# EAGLE library part MKL05ZXXVLF4 (library lib_stankus)
Freescale MKL05ZXXVLF4
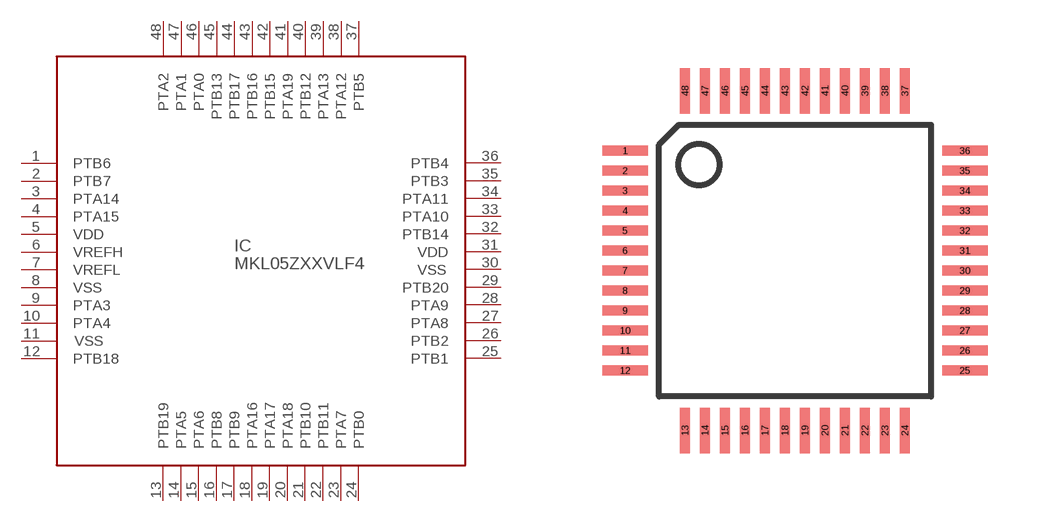
[diagram p115: symbol with the pads of QFP48_7_05; footprint QFP48_7_05]

Designator prefix IC

## MKL05ZXXVLF4-QFP48  [QFP48_7_05]
1  PTB6  pas
2  PTB7  pas
3  PTA14  pas
4  PTA15  pas
5  VDD  pas
6  VREFH  pas
7  VREFL  pas
8  VSS  pas
9  PTA3  pas
10  PTA4  pas
11  VSS  pas
12  PTB18  pas
13  PTB19  pas
14  PTA5  pas
15  PTA6  pas
16  PTB8  pas
17  PTB9  pas
18  PTA16  pas
19  PTA17  pas
20  PTA18  pas
21  PTB10  pas
22  PTB11  pas
23  PTA7  pas
24  PTB0  pas
25  PTB1  pas
26  PTB2  pas
27  PTA8  pas
28  PTA9  pas
29  PTB20  pas
30  VSS  pas
31  VDD  pas
32  PTB14  pas
33  PTA10  pas
34  PTA11  pas
35  PTB3  pas
36  PTB4  pas
37  PTB5  pas
38  PTA12  pas
39  PTA13  pas
40  PTB12  pas
41  PTA19  pas
42  PTB15  pas
43  PTB16  pas
44  PTB17  pas
45  PTB13  pas
46  PTA0  pas
47  PTA1  pas
48  PTA2  pas

## Footprint QFP48_7_05 (pad centres in mm)
QFP48, 7x7 MM, 0.5 MM
smd 1.143 x 0.254: 1 -4.25,2.75; 2 -4.25,2.25; 3 -4.25,1.75; 4 -4.25,1.25; 5 -4.25,0.75; 6 -4.25,0.25; 7 -4.25,-0.25; 8 -4.25,-0.75; 9 -4.25,-1.25; 10 -4.25,-1.75; 11 -4.25,-2.25; 12 -4.25,-2.75; 25 4.25,-2.75; 26 4.25,-2.25; 27 4.25,-1.75; 28 4.25,-1.25; 29 4.25,-0.75; 30 4.25,-0.25; 31 4.25,0.25; 32 4.25,0.75; 33 4.25,1.25; 34 4.25,1.75; 35 4.25,2.25; 36 4.25,2.75
smd 0.254 x 1.143: 13 -2.75,-4.25; 14 -2.25,-4.25; 15 -1.75,-4.25; 16 -1.25,-4.25; 17 -0.75,-4.25; 18 -0.25,-4.25; 19 0.25,-4.25; 20 0.75,-4.25; 21 1.25,-4.25; 22 1.75,-4.25; 23 2.25,-4.25; 24 2.75,-4.25; 37 2.75,4.25; 38 2.25,4.25; 39 1.75,4.25; 40 1.25,4.25; 41 0.75,4.25; 42 0.25,4.25; 43 -0.25,4.25; 44 -0.75,4.25; 45 -1.25,4.25; 46 -1.75,4.25; 47 -2.25,4.25; 48 -2.75,4.25